# Altium schematic symbol library Schlib1.SchLib: 24 symbols
Pins are listed as number, name and electrical type; pins without a type are passive.

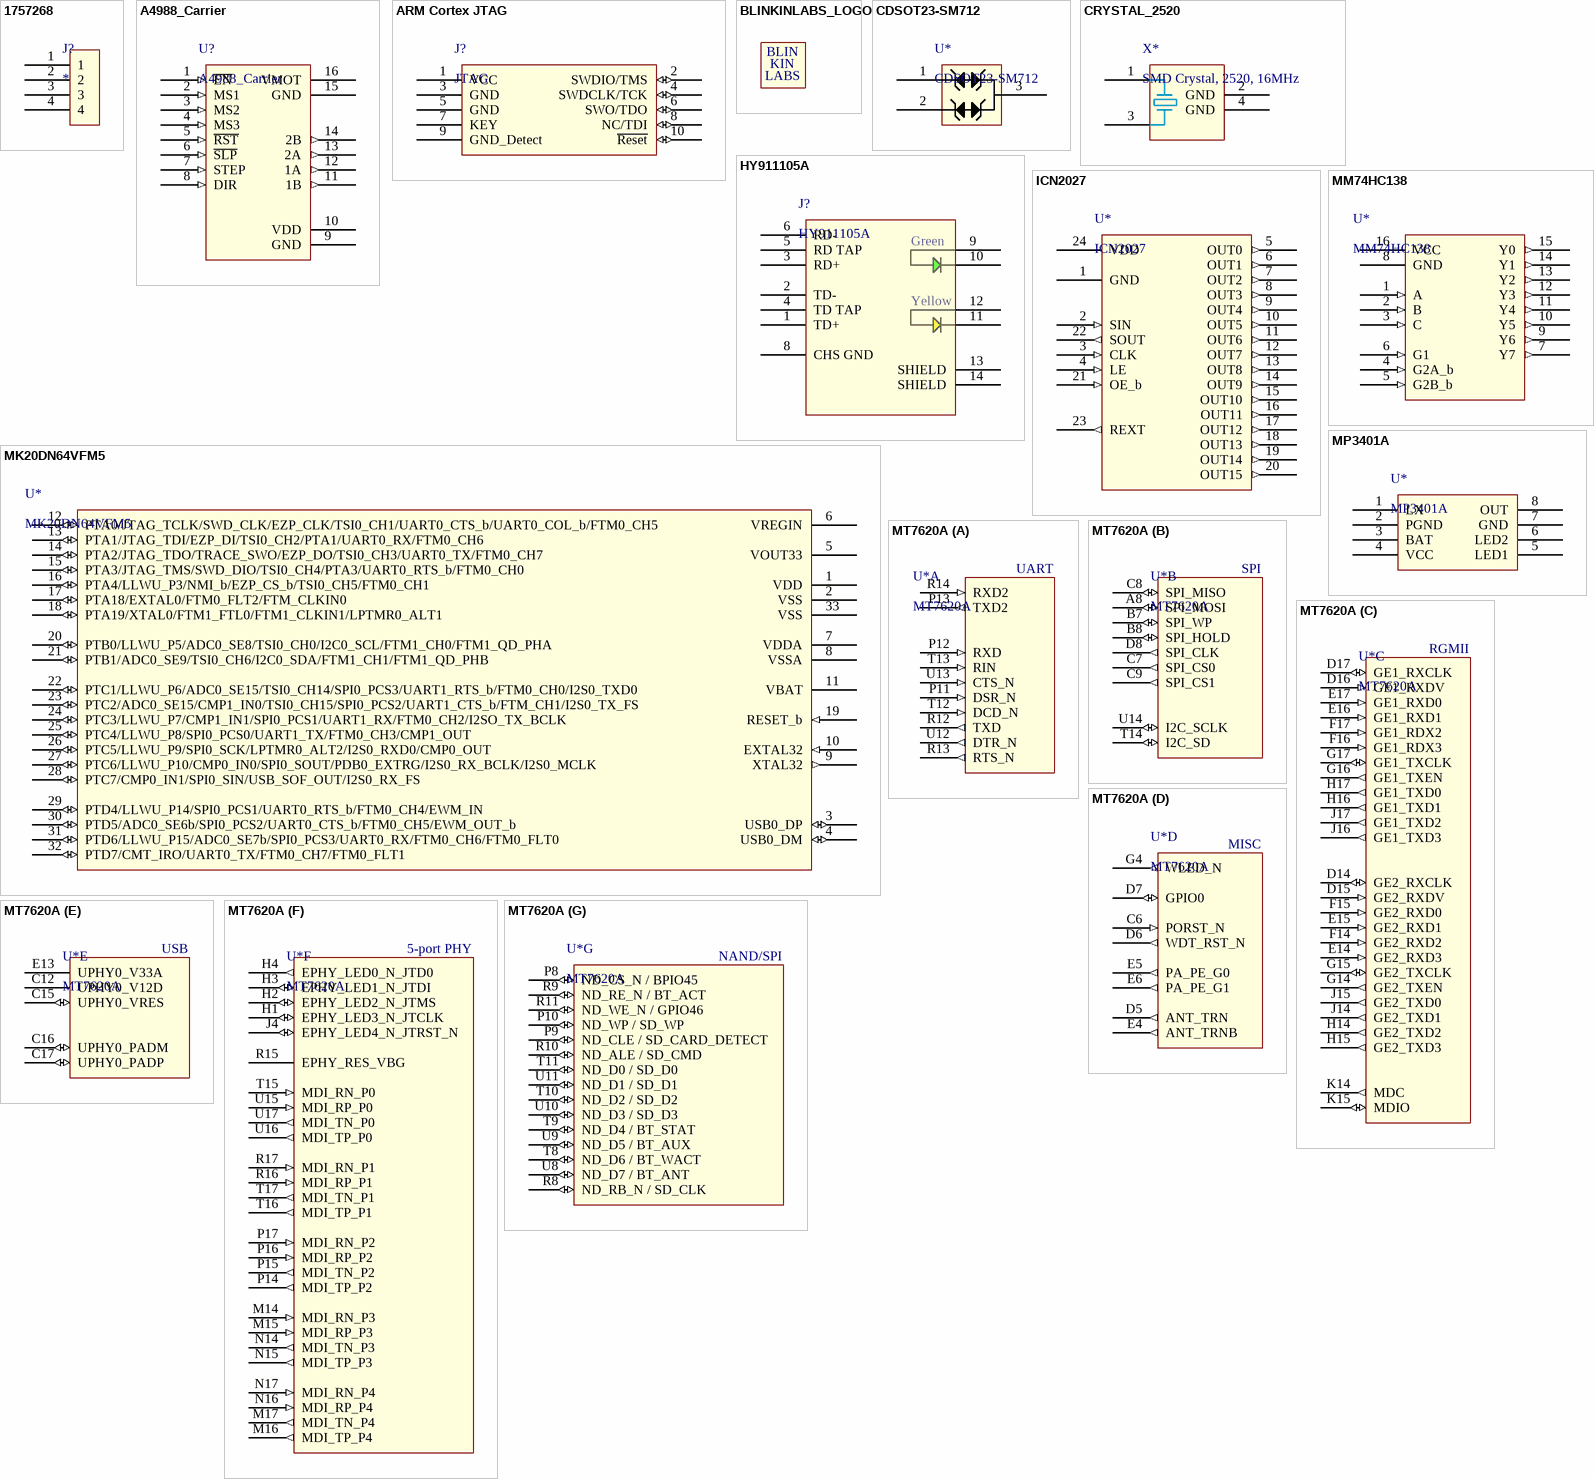
[diagram p0: symbols 1757268 to MT7620A]

## 1757268
designator J?
TERM BLOCK HDR 4POS 90DEG 5.08MM; Manufacturer: Phoenix Contact; PartNumber: 1757268; ComponentLink2Description: Datasheet; ComponentLink2URL: 1757268_06_en_00.pdf
footprint 1757268 (TERM BLOCK HDR 4POS 90DEG 5.08MM)
pins: 1, 2, 3, 4

## A4988_Carrier
designator U?
A4988 Stepper Motor Driver Carrier
footprint A4988_Carrier (A4988 Stepper Motor Driver Carrier)
pins: 1 ~{EN} (in) "Enable", 2 MS1 (in) "Micostep mode select 1", 3 MS2 (in) "Micostep mode select 2", 4 MS3 (in) "Micostep mode select 3", 5 ~{RST} (in) "Reset", 6 ~{SLP} (in) "Sleep", 7 STEP (in) "Step input", 8 DIR (in) "Direction", 9 GND (power) "Ground", 10 VDD (power) "Logic voltage", 11 1B (out) "Coil B output 1", 12 1A (out) "Coil A output 1", 13 2A (out) "Coil A output 2", 14 2B (out) "Coil B output 2", 15 GND (power) "Ground", 16 VMOT (power) "Motor voltage"

## ARM Cortex JTAG
designator J?, comment JTAG
Arm Cortex 10-pin JTAG connector
footprint 1.27mm 2x5 SMD Header
pins: 1 VCC (power), 2 SWDIO/TMS (io), 3 GND (power), 4 SWDCLK/TCK (io), 5 GND (power), 6 SWO/TDO (io), 7 KEY, 8 NC/TDI (io), 9 GND_Detect (power), 10 ~{Reset} (io)

## BLINKINLABS_LOGO
designator L?  (value not drawn)  (graphical)
Square logo
footprint BLINKINLABS_LOGO (Square blinkinlabs logo)
text: BLIN; KIN; LABS

## CDSOT23-SM712
designator U*
600 WATT TVS ARRAY - ASYMMETRICAL DATA LINE PROTECTOR; Manufacturer: Bourns; ComponentLink2Description: Datasheet; ComponentLink2URL: Bourns CDSOT23-SM712.pdf; PartNumber: CDSOT23-SM712
footprint SOT95P230X117-3N (SOT23, 3-Leads, Body 2.90x2.30mm, Pitch 0.95mm, IPC Medium Density)
pins: 1, 2, 3

## CRYSTAL_2520
designator X*, comment SMD Crystal, 2520, 16MHz
16 MHz 2520 Crystal resonator; Manufacturer: Kyocera; PartNumber: CX2520DB16000D0GEJCC; ComponentLink2Description: Datasheet; ComponentLink2URL: cx2520db_e.pdf
footprint CRYSTAL_SMD_2520 (Hand Drawn, 4-Leads, Body 2.5x2.0 mm)
pins: 1 XTAL1, 2 GND (power) "Ground", 3 XTAL2, 4 GND (power) "Ground"

## HY911105A
designator J?
Single Port RJ45 Connector with Integrated Magnetics and LED for 10/100Base-T NIC Applications; Manufacturer: HanRun; ComponentLink2Description: Datasheet; ComponentLink2URL: HY911105A.pdf; PartNumber: HY911105A
footprint HY911105A (Single Port RJ45 Connector with Integrated Magnetics and LED for 10/100Base-T NIC Applications)
pins: 1 TD+, 2 TD-, 3 RD+, 4 TD TAP, 5 RD TAP, 6 RD-, 8 CHS GND, 9 Green Anode, 10 Green Cathode, 11 Yellow Cathode, 12 Yellow Anode, 13 SHIELD, 14 SHIELD
text: Green; Yellow

## ICN2027
designator U*
16-Channel Constant Current LED Sink Driver; Manufacturer: ChipOne; PartNumber: ICN2027BP; ComponentLink2Description: Datasheet; ComponentLink2URL: ICN2027_datasheet_EN_2015_V0.2.pdf
footprint SOP64P600X175-24N (SOP, 24-Leads, Body 8.65x3.90mm, Pitch 0.64mm, IPC Medium Density)
pins: 1 GND (power), 2 SIN (in), 3 CLK (in), 4 LE (in), 5 OUT0 (out), 6 OUT1 (out), 7 OUT2 (out), 8 OUT3 (out), 9 OUT4 (out), 10 OUT5 (out), 11 OUT6 (out), 12 OUT7 (out), 13 OUT8 (out), 14 OUT9 (out), 15 OUT10 (out), 16 OUT11 (out), 17 OUT12 (out), 18 OUT13 (out), 19 OUT14 (out), 20 OUT15 (out), 21 OE_b (in), 22 SOUT (out), 23 REXT (out), 24 VDD (power)

## MK20DN64VFM5
designator U*
Cortex M4 ARM microcontroller with USB; Manufacturer: NXP; ComponentLink2Description: Datasheet; ComponentLink2URL: K20P32M50SF0.pdf
footprint QFN50P500X500X100_HS-33N (QFN, 32-Leads, Body 5.00x5.00mm, Pitch 0.50mm, Thermal Pad 3.65x3.65mm, IPC Medium Density)
pins: 1 VDD (power), 2 VSS (power), 3 USB0_DP (io), 4 USB0_DM (io), 5 VOUT33 (power), 6 VREGIN (power), 7 VDDA (power), 8 VSSA (power), 9 XTAL32 (out), 10 EXTAL32 (in), 11 VBAT (power), 12 PTA0/JTAG_TCLK/SWD_CLK/EZP_CLK/TSI0_CH1/UART0_CTS_b/UART0_COL_b/FTM0_CH5 (io), 13 PTA1/JTAG_TDI/EZP_DI/TSI0_CH2/PTA1/UART0_RX/FTM0_CH6 (io), 14 PTA2/JTAG_TDO/TRACE_SWO/EZP_DO/TSI0_CH3/UART0_TX/FTM0_CH7 (io), 15 PTA3/JTAG_TMS/SWD_DIO/TSI0_CH4/PTA3/UART0_RTS_b/FTM0_CH0 (io), 16 PTA4/LLWU_P3/NMI_b/EZP_CS_b/TSI0_CH5/FTM0_CH1 (io), 17 PTA18/EXTAL0/FTM0_FLT2/FTM_CLKIN0 (io), 18 PTA19/XTAL0/FTM1_FTL0/FTM1_CLKIN1/LPTMR0_ALT1 (io), 19 RESET_b (in), 20 PTB0/LLWU_P5/ADC0_SE8/TSI0_CH0/I2C0_SCL/FTM1_CH0/FTM1_QD_PHA (io), 21 PTB1/ADC0_SE9/TSI0_CH6/I2C0_SDA/FTM1_CH1/FTM1_QD_PHB (io), 22 PTC1/LLWU_P6/ADC0_SE15/TSI0_CH14/SPI0_PCS3/UART1_RTS_b/FTM0_CH0/I2S0_TXD0 (io), 23 PTC2/ADC0_SE15/CMP1_IN0/TSI0_CH15/SPI0_PCS2/UART1_CTS_b/FTM_CH1/I2S0_TX_FS (io), 24 PTC3/LLWU_P7/CMP1_IN1/SPI0_PCS1/UART1_RX/FTM0_CH2/I2SO_TX_BCLK (io), 25 PTC4/LLWU_P8/SPI0_PCS0/UART1_TX/FTM0_CH3/CMP1_OUT (io), 26 PTC5/LLWU_P9/SPI0_SCK/LPTMR0_ALT2/I2S0_RXD0/CMP0_OUT (io), 27 PTC6/LLWU_P10/CMP0_IN0/SPI0_SOUT/PDB0_EXTRG/I2S0_RX_BCLK/I2S0_MCLK (io), 28 PTC7/CMP0_IN1/SPI0_SIN/USB_SOF_OUT/I2S0_RX_FS (io), 29 PTD4/LLWU_P14/SPI0_PCS1/UART0_RTS_b/FTM0_CH4/EWM_IN (io), 30 PTD5/ADC0_SE6b/SPI0_PCS2/UART0_CTS_b/FTM0_CH5/EWM_OUT_b (io), 31 PTD6/LLWU_P15/ADC0_SE7b/SPI0_PCS3/UART0_RX/FTM0_CH6/FTM0_FLT0 (io), 32 PTD7/CMT_IRO/UART0_TX/FTM0_CH7/FTM0_FLT1 (io), 33 VSS (power) "Ground Pad"

## MM74HC138
designator U*
3-to-8 Line Decoder
footprint TSOP65P770X110-16N (TSOP, 16-Leads, Body 5.00x4.40mm, Pitch 0.65mm, IPC Medium Density)
pins: 1 A (in), 2 B (in), 3 C (in), 4 G2A_b (in), 5 G2B_b (in), 6 G1 (in), 7 Y7 (out), 8 GND (power), 9 Y6 (out), 10 Y5 (out), 11 Y4 (out), 12 Y3 (out), 13 Y2 (out), 14 Y1 (out), 15 Y0 (out), 16 VCC (power)

## MP3401A
designator U*
Lithium Ion battery charger with integrated 5v boost regulator; Manufacturer: ThinkPlus; ComponentLink2Description: Datasheet; ComponentLink2URL: MP3401A SPEC V1_2.pdf; PartNumber: MP3401A
footprint TSOP127P600X155-8N (TSOP, 8-Leads, Body 4.90x3.90mm, Pitch 1.27mm, IPC Medium Density)
pins: 1 LX, 2 PGND, 3 BAT, 4 VCC, 5 LED1, 6 LED2, 7 GND, 8 OUT

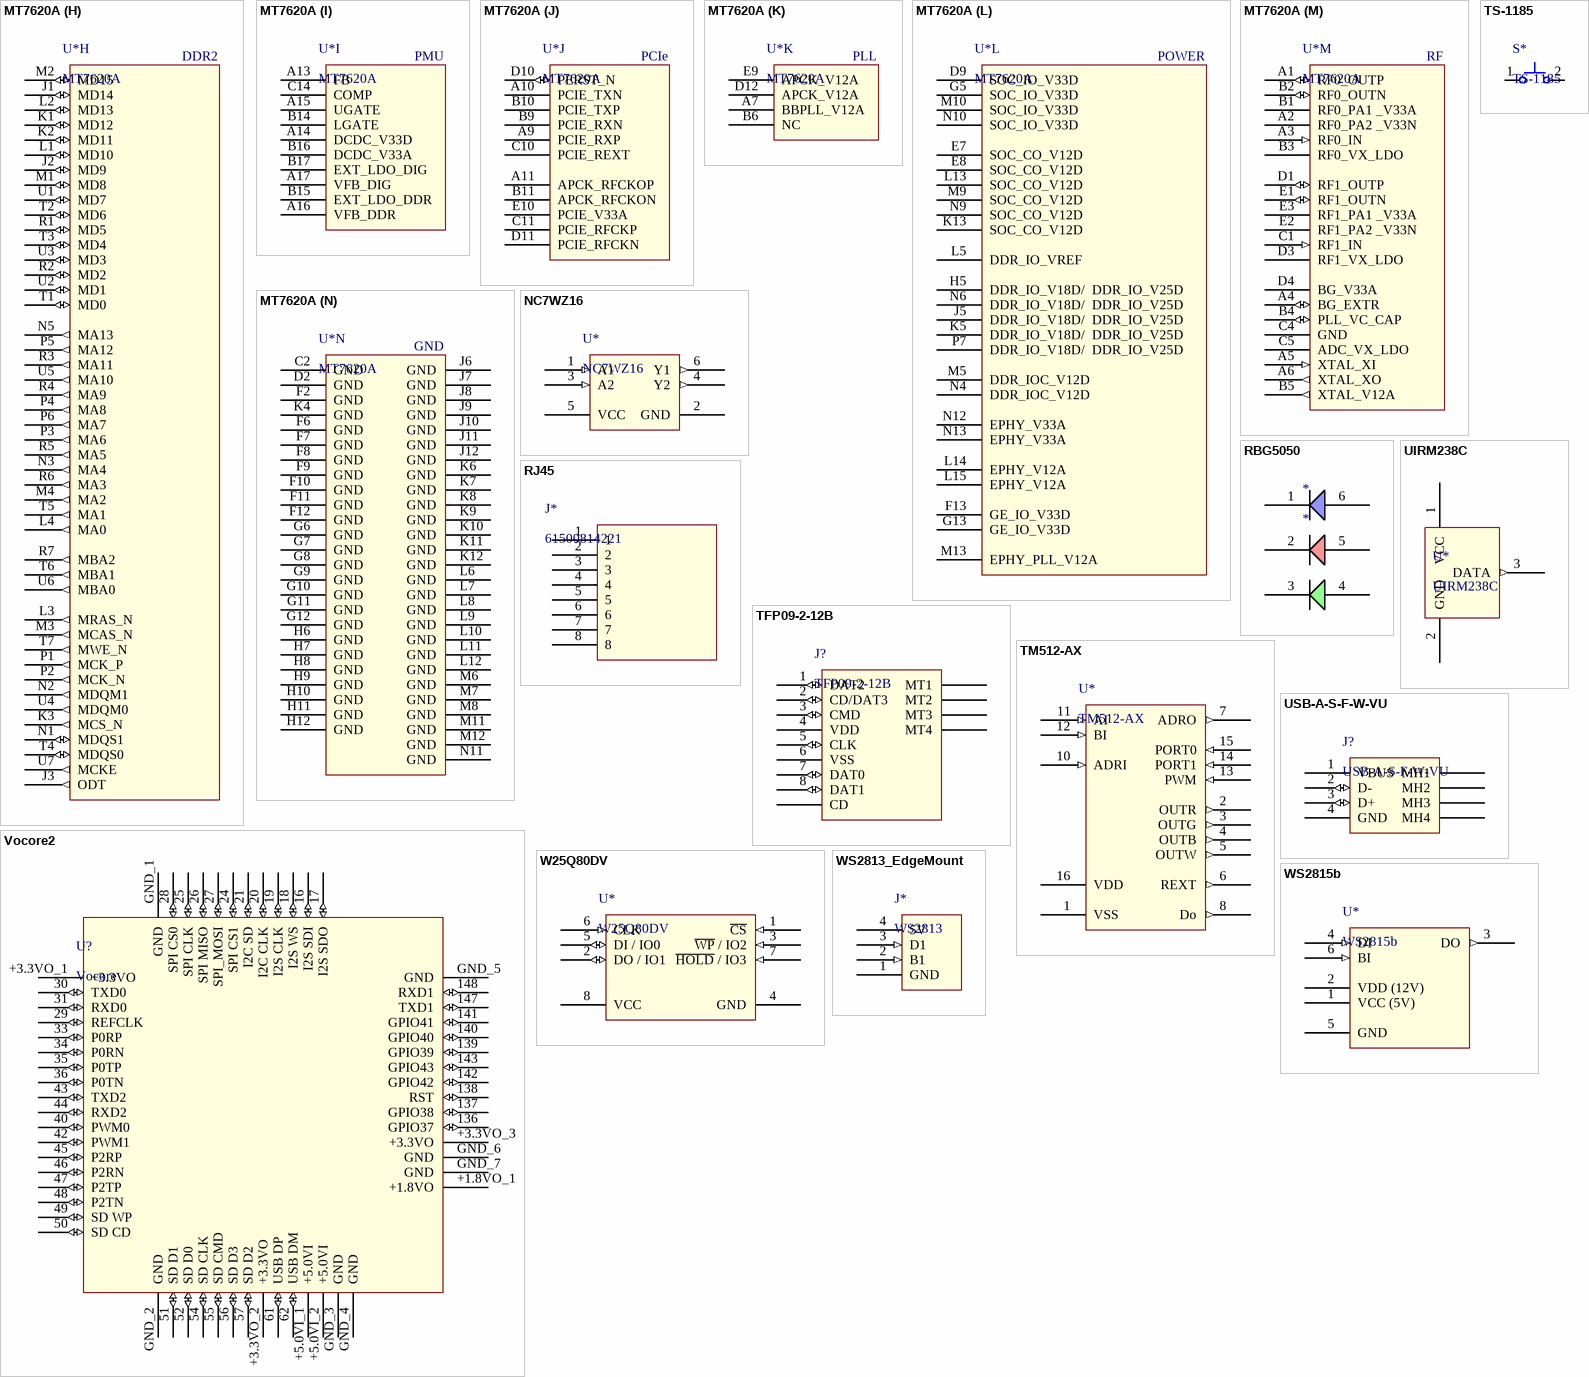
[diagram p1: symbols MT7620A to WS2815b]

## MT7620A
designator U*
Integrated 802.11n MAC/BBP and 2.4 GHz RF/FEM Router-on-a-Chip; Manufacturer: MediaTek; ComponentLink2Description: Datasheet; ComponentLink2URL: MT7620_Datasheet.pdf; PartNumber: MT7620A
footprint BGA265C65P17X17_1100X1100X120 (BGA, 265-Leads, Body 11.00x11.00mmx1.20mm, Pitch 0.65mm)
part A pins: P11 DSR_N (in) "UART DSR_N", P12 RXD (in) "UART RXD", P13 TXD2 (out) "UART Lite TXD", R12 TXD (out) "UART TXD", R13 RTS_N (out) "UART RTS", R14 RXD2 (in) "UART Lite RXD", T12 DCD_N (in) "UART DCD_N", T13 RIN (in) "UART RIN", U12 DTR_N (out) "UART DTR", U13 CTS_N (in) "UART CTS_N"
part B pins: A8 SPI_MOSI (io) "Master input/Slave output", B7 SPI_WP (io) "GOP function", B8 SPI_HOLD (io) "GOP function", C7 SPI_CS0 (out) "SPI chip select0", C8 SPI_MISO (io) "Master output/Slave input", C9 SPI_CS1 (out) "SPI chip select1", D8 SPI_CLK (out) "SPI clock", T14 I2C_SD (io) "I2C Data", U14 I2C_SCLK (io) "I2C Clock"
part C pins: D14 GE2_RXCLK (io), D15 GE2_RXDV (in), D16 GE1_RXDV (in), D17 GE1_RXCLK (io), E14 GE2_RXD3 (in), E15 GE2_RXD1 (in), E16 GE1_RXD1 (in), E17 GE1_RXD0 (in), F14 GE2_RXD2 (in), F15 GE2_RXD0 (in), F16 GE1_RDX3 (in), F17 GE1_RDX2 (in), G14 GE2_TXEN (out), G15 GE2_TXCLK (io), G16 GE1_TXEN (out), G17 GE1_TXCLK (io), H14 GE2_TXD2 (out), H15 GE2_TXD3 (out), H16 GE1_TXD1 (out), H17 GE1_TXD0 (out), J14 GE2_TXD1 (out), J15 GE2_TXD0 (out), J16 GE1_TXD3 (out), J17 GE1_TXD2 (out), K14 MDC (out), K15 MDIO (io)
part D pins: C6 PORST_N (in) "Power on reset", D5 ANT_TRN (out) "Positive signal for antenna T/R switch", D6 WDT_RST_N (out) "Watchdog Reset", D7 GPIO0 (io) "GPO0 (output only)", E4 ANT_TRNB (out) "Negative signal for antenna T/R switch", E5 PA_PE_G0 (out) "0 V to 3.3 V control for external PA0", E6 PA_PE_G1 (out) "0 V to 3.3 V control for external PA1", G4 WLED_N (out) "WLAN Activity LED"
part E pins: C12 UPHY0_V12D (power) "1.2 V USB PHY digital power supply", C15 UPHY0_VRES (io), C16 UPHY0_PADM (io) "USB Port0 data pin Data-", C17 UPHY0_PADP (io) "USB Port0 data pin Data+", E13 UPHY0_V33A (power) "3.3 V USB PHY analog power supply"
part F pins: H1 EPHY_LED3_N_JTCLK (io) "10/100 PHY Port #3 activity LED, JTAG_CLK", H2 EPHY_LED2_N_JTMS (io) "10/100 PHY Port #2 activity LED, JTAG_TMS", H3 EPHY_LED1_N_JTDI (io) "10/100 PHY Port #1 activity LED, JTAG_TDI", H4 EPHY_LED0_N_JTD0 (out) "10/100 PHY Port #0 activity LED, JTAG_TDO", J4 EPHY_LED4_N_JTRST_N (io) "10/100 PHY Port #4 activity LED, JTAG_TRST_N", M14 MDI_RN_P3 (in) "10/100 PHY Port #3 RXN", M15 MDI_RP_P3 (in) "10/100 PHY Port #3 RXP", M16 MDI_TP_P4 (out) "10/100 PHY Port #4 TXP", M17 MDI_TN_P4 (out) "10/100 PHY Port #4 TXN", N14 MDI_TN_P3 (out) "10/100 PHY Port #3 TXN", N15 MDI_TP_P3 (out) "10/100 PHY Port #3 TXP", N16 MDI_RP_P4 (in) "10/100 PHY Port #4 RXP", N17 MDI_RN_P4 (in) "10/100 PHY Port #4 RXN", P14 MDI_TP_P2 (out) "10/100 PHY Port #2 TXP", P15 MDI_TN_P2 (out) "10/100 PHY Port #2 TXN", P16 MDI_RP_P2 (in) "10/100 PHY Port #2 RXP", P17 MDI_RN_P2 (in) "10/100 PHY Port #2 RXN", R15 EPHY_RES_VBG "Connect to an external resistor to provide accurate  bias current", R16 MDI_RP_P1 (in) "10/100 PHY Port #1 RXP", R17 MDI_RN_P1 (in) "10/100 PHY Port #1 RXN", T15 MDI_RN_P0 (in) "10/100 PHY Port #0 RXN", T16 MDI_TP_P1 (out) "10/100 PHY Port #1 TXP", T17 MDI_TN_P1 (out) "10/100 PHY Port #1 TXN", U15 MDI_RP_P0 (in) "10/100 PHY Port #0 RXP", U16 MDI_TP_P0 (out) "10/100 PHY Port #0 TXP", U17 MDI_TN_P0 (out) "10/100 PHY Port #0 TXN"
part G pins: P8 ND_CS_N / BPIO45 (io), P9 ND_CLE / SD_CARD_DETECT (io), P10 ND_WP / SD_WP (io), R8 ND_RB_N / SD_CLK (io), R9 ND_RE_N / BT_ACT (io), R10 ND_ALE / SD_CMD (io), R11 ND_WE_N / GPIO46 (io), T8 ND_D6 / BT_WACT (io), T9 ND_D4 / BT_STAT (io), T10 ND_D2 / SD_D2 (io), T11 ND_D0 / SD_D0 (io), U8 ND_D7 / BT_ANT (io), U9 ND_D5 / BT_AUX (io), U10 ND_D3 / SD_D3 (io), U11 ND_D1 / SD_D1 (io)
part H pins: J1 MD14 (io) "DDR2 Data bit #14", J2 MD9 (io) "DDR2 Data bit #9", J3 ODT (out) "DDR2 ODT", K1 MD12 (io) "DDR2 Data bit #12", K2 MD11 (io) "DDR2 Data bit #11", K3 MCS_N (out) "DDR2 MCS_N", L1 MD10 (io) "DDR2 Data bit #10", L2 MD13 (io) "DDR2 Data bit #13", L3 MRAS_N (out) "DDR2 MRAS_N", L4 MA0 (out) "DDR2 Address bit #0", M1 MD8 (io) "DDR2 Data bit #8", M2 MD15 (io) "DDR2 Data bit #15", M3 MCAS_N (out) "DDR2 MCAS_N", M4 MA2 (out) "DDR2 Address bit #2", N1 MDQS1 (io) "DDR2 MDQS1", N2 MDQM1 (out) "DDR2 MDQM1", N3 MA4 (out) "DDR2 Address bit #4", N5 MA13 (out) "DDR2 Address bit #13", P1 MCK_P (out) "DDR2 MCK_P", P2 MCK_N (out) "DDR2 MCK_N", P3 MA6 (out) "DDR2 Address bit #6", P4 MA8 (out) "DDR2 Address bit #8", P5 MA12 (out) "DDR2 Address bit #12", P6 MA7 (out) "DDR2 Address bit #7", R1 MD5 (io) "DDR2 Data bit #5", R2 MD2 (io) "DDR2 Data bit #2", R3 MA11 (out) "DDR2 Address bit #11", R4 MA9 (out) "DDR2 Address bit #9", R5 MA5 (out) "DDR2 Address bit #5", R6 MA3 (out) "DDR2 Address bit #3", R7 MBA2 (out) "DDR2 MBA #2", T1 MD0 (io) "DDR2 Data bit #0", T2 MD6 (io) "DDR2 Data bit #6", T3 MD4 (io) "DDR2 Data bit #4", T4 MDQS0 (io) "DDR2 MDQS0", T5 MA1 (out) "DDR2 Address bit #1", T6 MBA1 (out) "DDR2 MBA #1", T7 MWE_N (out) "DDR2 MWE_N", U1 MD7 (io) "DDR2 Data bit #7", U2 MD1 (io) "DDR2 Data bit #1", U3 MD3 (io) "DDR2 Data bit #3", U4 MDQM0 (out) "DDR2 MDQM0", U5 MA10 (out) "DDR2 Address bit #10", U6 MBA0 (out) "DDR2 MBA #0", U7 MCKE (out) "DDR2 MCKE"
part I pins: A13 FB "This pin is part of the error amplifier and provides the  reference voltage which the sampled output voltage is  compared to. A difference between these two  voltages indicates an error in the output voltage", A14 DCDC_V33D (power) "3.3 V power supply only for gate driver of SW  (Ipeak<200 mA; Iavg<20 mA)", A15 UGATE "Gate drive for external upper MOSFET (Ipeak<200 mA;  Iavg<20 mA)", A16 VFB_DDR "DDR output feedback", A17 VFB_DIG "1.2 V output feedback", B14 LGATE "Gate drive for external lower MOSFET (Ipeak<200 mA;  Iavg<20 mA)", B15 EXT_LDO_DDR "Connect to Base terminal of external BJT (Iavg<20 mA)", B16 DCDC_V33A (power) "3.3 V analog power (Ipeak<200 mA; Iavg<10 mA)", B17 EXT_LDO_DIG "Connect to Base terminal of external BJT (Iavg<20 mA)", C14 COMP "This pin provides the error amplifier output which  compensates for errors in the output voltage identified  using the FB pin."
part J pins: A9 PCIE_RXP "PCIe0 differential receive RX +", A10 PCIE_TXN "PCIe0 differential transmit TX -", A11 APCK_RFCKOP "External reference clock output (positive)", B9 PCIE_RXN "PCIe0 differential receive RX -", B10 PCIE_TXP "PCIe0 differential transmit TX+", B11 APCK_RFCKON "External reference clock output (negative)", C10 PCIE_REXT "PCIe0 Reference resistor connection  (12K Ohm +/- 1 %)", C11 PCIE_RFCKP  "Device reference clock input (positive)", D10 PERST_N (io) "PICe reset", D11 PCIE_RFCKN "Device reference clock input (negative)", E10 PCIE_V33A (power) "PCIe 3.3 V analog power"
part K pins: A7 BBPLL_V12A (power) "1.2 V analog power supply to BB PLL", B6 NC, D12 APCK_V12A (power) "1.2 V analog power supply for CPLL/PPLL", E9 APCK_V12A  (power) "1.2 V analog power supply for CPLL/PPLL"
part L pins: D9 SOC_IO_V33D (power) "3.3 V digital I/O power supply", E7 SOC_CO_V12D  (power) "1.2 V digital core power supply", E8 SOC_CO_V12D  (power) "1.2 V digital core power supply", F13 GE_IO_V33D (power) "3.3 V power supply for RGMII", G5 SOC_IO_V33D (power) "3.3 V digital I/O power supply", G13 GE_IO_V33D (power) "3.3 V power supply for RGMII", H5 DDR_IO_V18D/  DDR_IO_V25D (power) "1.8 V/2.5 V/3.3 V level shifter power supply for  DDR2/DDR1/SDR", J5 DDR_IO_V18D/  DDR_IO_V25D (power) "1.8 V/2.5 V/3.3 V level shifter power supply for  DDR2/DDR1/SDR", K5 DDR_IO_V18D/  DDR_IO_V25D (power) "1.8 V/2.5 V/3.3 V level shifter power supply for  DDR2/DDR1/SDR", K13 SOC_CO_V12D  (power) "1.2 V digital core power supply", L5 DDR_IO_VREF (power) "0.9 V/1.25 V/GND reference voltage power supply for  DDR2/DDR1/SDR", L13 SOC_CO_V12D  (power) "1.2 V digital core power supply", L14 EPHY_V12A (power) "1.2 V power supply for EPHY", L15 EPHY_V12A (power) "1.2 V power supply for EPHY", M5 DDR_IOC_V12D (power) "1.2 V I/O core power supply for DDR and SDR", M9 SOC_CO_V12D  (power) "1.2 V digital core power supply", M10 SOC_IO_V33D (power) "3.3 V digital I/O power supply", M13 EPHY_PLL_V12A (power) "1.2 V power supply for EPHY PLL", N4 DDR_IOC_V12D (power) "1.2 V I/O core power supply for DDR and SDR", N6 DDR_IO_V18D/  DDR_IO_V25D (power) "1.8 V/2.5 V/3.3 V level shifter power supply for  DDR2/DDR1/SDR", N9 SOC_CO_V12D  (power) "1.2 V digital core power supply", N10 SOC_IO_V33D (power) "3.3 V digital I/O power supply", N12 EPHY_V33A (power) "3.3 V power supply for EPHY", N13 EPHY_V33A (power) "3.3 V power supply for EPHY", P7 DDR_IO_V18D/  DDR_IO_V25D (power) "1.8 V/2.5 V/3.3 V level shifter power supply for  DDR2/DDR1/SDR"
part M pins: A1 RF0_OUTP (io) "2.4 GHz TX0 PA output (positive)  2.4 GHz RX0 LNA input (positive)", A2 RF0_PA2 _V33N (power) "3.3 V Supply for RF channel0", A3 RF0_IN (in) "2.4 GHz RX0 input (aux LNA0 input)", A4 BG_EXTR (io) "External reference resistor (24 kΩ)", A5 XTAL_XI (in) "Crystal oscillator input", A6 XTAL_XO (out) "Crystal oscillator output", B1 RF0_PA1 _V33A (power) "3.3 V Supply for RF channel0", B2 RF0_OUTN (io) "2.4 GHz TX0 PA output (negative)  2.4 GHz RX0 LNA input (negative)", B3 RF0_VX_LDO (power) "1.2 V to 3.3 V supply for RF0", B4 PLL_VC_CAP (io) "PLL external loop filter", B5 XTAL_V12A (out) "Crystal LDO output", C1 RF1_IN (in) "2.4 GHz RX1 input (aux LNA0 input)", C4 GND (power) "Ground ball", C5 ADC_VX_LDO (power) "1.2 V to 3.3 V Supply for ADC", D1 RF1_OUTP (io) "2.4 GHz TX1 PA output (positive)  2.4 GHz RX1 LNA input (positive)", D3 RF1_VX_LDO (power) "1.2 V to 3.3 V supply for RF1", D4 BG_V33A (power) "3.3 V supply for band gap reference", E1 RF1_OUTN (io) "2.4 GHz TX1 PA output (negative)  2.4 GHz RX1 LNA input (negative)", E2 RF1_PA2 _V33N (power) "3.3 V Supply for RF channel1", E3 RF1_PA1 _V33A (power) "3.3 V Supply for RF channel1"
part N pins: C2 GND (power), D2 GND (power), F2 GND (power), F6 GND (power), F7 GND (power), F8 GND (power), F9 GND (power), F10 GND (power), F11 GND (power), F12 GND (power), G6 GND (power), G7 GND (power), G8 GND (power), G9 GND (power), G10 GND (power), G11 GND (power), G12 GND (power), H6 GND (power), H7 GND (power), H8 GND (power), H9 GND (power), H10 GND (power), H11 GND (power), H12 GND (power), J6 GND (power), J7 GND (power), J8 GND (power), J9 GND (power), J10 GND (power), J11 GND (power), J12 GND (power), K4 GND (power), K6 GND (power), K7 GND (power), K8 GND (power), K9 GND (power), K10 GND (power), K11 GND (power), K12 GND (power), L6 GND (power), L7 GND (power), L8 GND (power), L9 GND (power), L10 GND (power), L11 GND (power), L12 GND (power), M6 GND (power), M7 GND (power), M8 GND (power), M11 GND (power), M12 GND (power), N11 GND (power)
part A text: UART
part B text: SPI
part C text: RGMII
part D text: MISC
part E text: USB
part F text: 5-port PHY
part G text: NAND/SPI
part H text: DDR2
part I text: PMU
part J text: PCIe
part K text: PLL
part L text: POWER
part M text: RF

## NC7WZ16
designator U*
TinyLogic UHS Dual Buffer; Manufacturer: Fairchild; PartNumber: NC7WZ16P6X; ComponentLink2Description: Datasheet; ComponentLink2URL: NC7WZ16-97681.pdf
footprint SC70, 6-lead, 1.25mm
pins: 1 A1 (in) "Input 1", 2 GND (power) "Ground", 3 A2 (in) "Input 2", 4 Y2 (out) "Output 2", 5 VCC (power) "Supply Voltage (1.65-5.5V)", 6 Y1 (out) "Output 1"

## RBG5050
designator *
footprint 5050RGB
pins: 1, 2, 3, 4, 5, 6

## RJ45
designator J*, comment 61500814221
CONN MOD JACK 8P8C R/A SHIELDED; Manufacturer: Wurth Electronics Inc; ComponentLink2Description: Datasheet; ComponentLink2URL: Wurth Modular Jack Conn WR-MJ.pdf; PartNumber: 61500814221
footprint WURTH 61500814221 (CONN MOD JACK 8P8C R/A SHIELDED)
pins: 1, 2, 3, 4, 5, 6, 7, 8

## TFP09-2-12B
designator J?
Micro SD Card Connector
footprint TFP09-2-12B (Micro SD Card Connector)
pins: 1 DAT2 (io), 2 CD/DAT3 (io), 3 CMD (io), 4 VDD (power), 5 CLK (io), 6 VSS (power), 7 DAT0 (io), 8 DAT1 (io), CD, MT1, MT2, MT3, MT4

## TM512-AX
designator U*
DMX512 decoding and driver IC; Manufacturer: Shenzhen Titan Micro Electronics Co; ComponentLink2Description: Datasheet; ComponentLink2URL: TM512-AX.pdf; PartNumber: TM512-AX
footprint SOIC127P600X170-16N (SOIC, 16-Leads, Body 9.13x3.95mm, Pitch 1.27mm, IPC Medium Density)
pins: 1 VSS (power) "Power negative", 2 OUTR (out) "PWM output port", 3 OUTG (out) "PWM output port", 4 OUTB (out) "PWM output port", 5 OUTW (out) "PWM output port", 6 REXT (out) "Constant current feedback, the ground resistance to adjust the output current size", 7 ADRO (out) "Address write code output", 8 Do (out) "Decoding forwarding channel, can control our 18 series and 19 series IC", 10 ADRI (in) "Address write code line input, built-in pull-up", 11 AI (in) "Difference signal, positive", 12 BI (in) "Difference signal, negative", 13 PWM (in) "Output polarity selection, the general floating, then the output after the polarity phase  Reverse, while the port refresh rate down to 500Hz", 14 PORT1 (in) "Field selection, built-in pull-down", 15 PORT0 (in) "Field selection, built-in pull-down", 16 VDD (power) "Power positive"

## TS-1185
designator S*
Tact Switch, 3x4mm, no alignment pin, turtle style
footprint TS-1185 (3x4x2mm Tact Switch, no alignment pin)
pins: 1, 2

## UIRM238C
designator U*
Infrared Receiver Module; PartNumber: UIRM238C
footprint UIRM238C (Infrared Receiver Module)
pins: 1 VCC (power), 2 GND (power), 3 DATA (out)

## USB-A-S-F-W-VU
designator J?
USB A, SINGLE, VERTICAL UPRIGHT THOUGH HOLE; Manufacturer: Samtec; ComponentLink2Description: Datasheet; ComponentLink2URL: usb-a-s-x-x-vu-xx-mkt.pdf; PartNumber: USB-A-S-F-W-VU
footprint USB-A-S-F-W-VU (USB A, SINGLE, VERTICAL UPRIGHT THOUGH HOLE)
pins: 1 VBUS (power) "USB 5V", 2 D- (io) "USB Data, negative", 3 D+ (io) "USB Data, positive", 4 GND (power) "Ground", 5 MH4 "Mounting Hole", 6 MH3 "Mounting Hole", 7 MH2 "Mounting Hole", 8 MH1 "Mounting Hole"

## Vocore2
designator U?, comment Vocore
Vocore2: The Coin-sized Linux Computer; Manufacturer: VoCore Studio; PartNumber: VoCore2
footprint VoCore2 (VoCore2: The Coin-sized Linux Computer)
pins: 16 I2S SDI (io) "GPIO0, I2S Data In", 17 I2S SDO (io) "GPIO1, I2S Data Out", 18 I2S WS (io) "GPIO2, I2S L/R Clock", 19 I2S CLK (io) "GPIO3, I2S Bit Clock", 20 I2C CLK (io) "GPIO4, I2C Clock", 21 I2C SD (io) "GPIO5, I2C Data", 24 SPI CS1 (io) "GPIO6, SPI Master Chip Select 1", 25 SPI CLK (io) "GPIO7, SPI Master Clock", 26 SPI MISO (io) "GPIO9, SPI Master In Slave Out", 27 SPI_MOSI (io) "GPIO8, SPI Master Out Slave In", 28 SPI CS0 (io) "GPIO10, SPI Master Chip Select 0", 29 REFCLK (io) "GPIO11, reference clock", 30 TXD0 (io) "GPIO12, UART0 Lite TXD", 31 RXD0 (io) "GPIO13, UART0 Lite RXD", 33 P0RP (io) "10/100 PHY Port #0 RXP", 34 P0RN (io) "10/100 PHY Port #0 RXN", 35 P0TP (io) "10/100 PHY Port #0 TXP", 36 P0TN (io) "10/100 PHY Port #0 TXN", 40 PWM0 (io) "10/100 PHY Port #1 RXN, GPIO17, UART2 Lite TXD, SPI Slave MOSI", 42 PWM1 (io) "10/100 PHY Port #1 RXP, GPIO16, UART2 Lite RXD, SPI Slave MISO", 43 TXD2 (io) "10/100 PHY Port #1 TXN, GPIO15, PWM Channel, SPI Slave Clock", 44 RXD2 (io) "10/100 PHY Port #1 TXP, GPIO14, PWM Channel, SPI Slave Chip Select", 45 P2RP (io) "10/100 PHY Port #2 RXP, GPIO18, PWM Channel", 46 P2RN (io) "10/100 PHY Port #2 RXN, GPIO19, PWM Channel", 47 P2TP (io) "10/100 PHY Port #2 TXP, GPIO20, PWM Channel", 48 P2TN (io) "10/100 PHY Port #2 TXN, GPIO21, PWM Channel", 49 SD WP (io) "GPIO22, 10/100 PHY Port #3 TXP, SDXC Write Protect", 50 SD CD (io) "GPIO23, 10/100 PHY Port #3 TXN, SDXC Card Detect", 51 SD D1 (io) "GPIO24, 10/100 PHY Port #3 RXP, SDXC Data Bit1", 52 SD D0 (io) "GPIO25, 10/100 PHY Port #3 RXN, SDXC Data Bit0", 54 SD CLK (io) "GPIO26, 10/100 PHY Port #4 RXP, SDXC Clock", 55 SD CMD (io) "GPIO27, 10/100 PHY Port #4 RXN, SDXC Command", 56 SD D3 (io) "GPIO28, 10/100 PHY Port #4 TXP, SDXC Data Bit3", 57 SD D2 (io) "GPIO29, 10/100 PHY Port #4 TXN, SDXC Data Bit2", 61 USB DP (io) "USB2.0 Data+", 62 USB DM (io) "USB2.0 Data-", 136 GPIO37 (io), 137 GPIO38 (io), 138 RST (io) "Reset, touch GND to reset", 139 GPIO39 (io) "GPIO39, JTAG Reset", 140 GPIO40 (io) "GPIO40, JTAG Clock", 141 GPIO41 (io) "GPIO41, JTAG TMS", 142 GPIO42 (io) "GPIO42, JTAG TDI", 143 GPIO43 (io) "GPIO43, JTAG TDO", 147 TXD1 (io) "GPIO13, UART1 Lite TXD", 148 RXD1 (io) "GPIO12, UART1 Lite RXD", +1.8VO_1 +1.8VO (power) "+1.8V output", +3.3VO_1 +3.3VO (power) "+3.3V output", +3.3VO_2 +3.3VO (power) "+3.3V output", +3.3VO_3 +3.3VO (power) "+3.3V output", +5.0VI_1 +5.0VI (power) "+5.0V input", +5.0VI_2 +5.0VI (power) "+5.0V input", GND_1 GND (power) "Groud", GND_2 GND (power), GND_3 GND (power) "Ground", GND_4 GND (power) "Ground", GND_5 GND (power) "Ground", GND_6 GND (power) "Ground", GND_7 GND (power) "Ground"

## W25Q80DV
designator U*
3V 8Mbit Serial Flash Memory with Dual and Quad SPI; Manufacturer: Winbond; PartNumber: W25Q80DVUXIE; ComponentLink2Description: Datasheet; ComponentLink2URL: w25x20cl_revf 20150806.pdf
footprint USON 2x3 (PG-USON-8-1-Package_Overview.pdf)
pins: 1 ~{CS} (in) "Chip Select Input", 2 DO / IO1 (io) "Data Input / Output", 3 ~{WP} / IO2 (in) "Write Protect Input", 4 GND (power) "Ground", 5 DI / IO0 (io) "Data Input / Output", 6 CLK (in) "Serial Clock Input", 7 ~{HOLD} / IO3 (in) "Hold Input", 8 VCC (power) "Power Supply"

## WS2813_EdgeMount
designator J*, comment WS2813  (no BOM)
Edge-mount connector for WS2813 LED strip; Manufacturer: Blinkinlabs
footprint WS2813_EdgeMount (Castellated edge mount connector for WS2813)
pins: 1 GND (power) "Ground", 2 B1 (in) "Backup data input", 3 D1 (in) "Primary data input", 4 5V (power)

## WS2815b
designator U*
12V addressable LED; Manufacturer: World Semi; PartNumber: WS2815B
footprint 5050RGB
pins: 1 VCC (5V) (power) "Regulated 5V output", 2 VDD (12V) (power) "12V input", 3 DO (out) "Data out", 4 DI (in) "Data input", 5 GND (power) "Ground", 6 BI (in) "Backup input"